# EAGLE library part 6PIN_GROUP (library edebill)
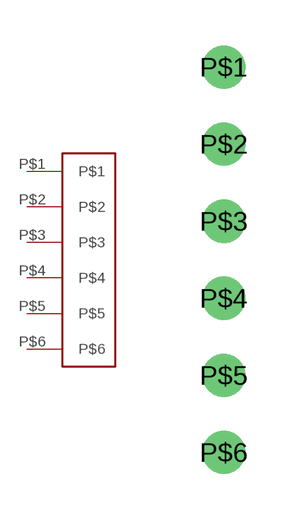
[diagram p4: symbol with the pads of 6PIN_GROUP; footprint 6PIN_GROUP]

Designator prefix -

## 6PIN_GROUP  [6PIN_GROUP]
P$1  P$1
P$2  P$2
P$3  P$3
P$4  P$4
P$5  P$5
P$6  P$6

## Footprint 6PIN_GROUP (pad centres in mm)
drill 0.8 pad 1.422 round: P$1 0,6.35; P$2 0,3.81; P$3 0,1.27; P$4 0,-1.27; P$5 0,-3.81; P$6 0,-6.35